# Altium integrated library RV-3028-C7_32.768KHZ_1PPM-TA-QA.IntLib: 1 symbol
Pins are listed as number, name and electrical type; pins without a type are passive.

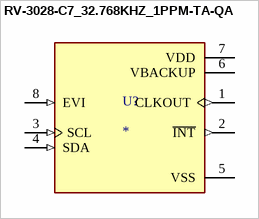
[diagram p0: symbol RV-3028-C7_32.768KHZ_1PPM-TA-QA]

## RV-3028-C7_32.768KHZ_1PPM-TA-QA
designator U?
Real Time Clock (RTC) IC Clock/Calendar 2B, 43B IÂ²C, 2-Wire Serial 8-WCDFN; MF: Micro Crystal; MP: RV-3028-C7 32.768KHZ 1PPM-TA-QA; SnapEDA_Link: https://www.snapeda.com/parts/RV-3028-C7%2032.768KHZ%201PPM-TA-QA/Micro+Crystal/view-part/?ref=snap; Package: QFN-8 Micro Crystal; Value: *; Check_prices: https://www.snapeda.com/parts/RV-3028-C7%2032.768KHZ%201PPM-TA-QA/Micro+Crystal/view-part/?ref=eda
footprint IC_RV-3028-C7_32.768KHZ_1PPM-TA-QA
pins: 1 CLKOUT (out), 2 ~{INT} (out), 3 SCL (in), 4 SDA (in), 5 VSS (power), 6 VBACKUP (power), 7 VDD (power), 8 EVI (in)